# Altium footprint library Blinker.PcbLib: 5 footprints
Each footprint in its own frame and in the unit in brackets; x right, y up, seen from the top. Pads: shape width x height; smd on the part's side, far side on the other; paste and mask are expansions set on the pad; w line width, h text height; cw(c..) or ccw(c..) is an arc to the next point about the centre after c.
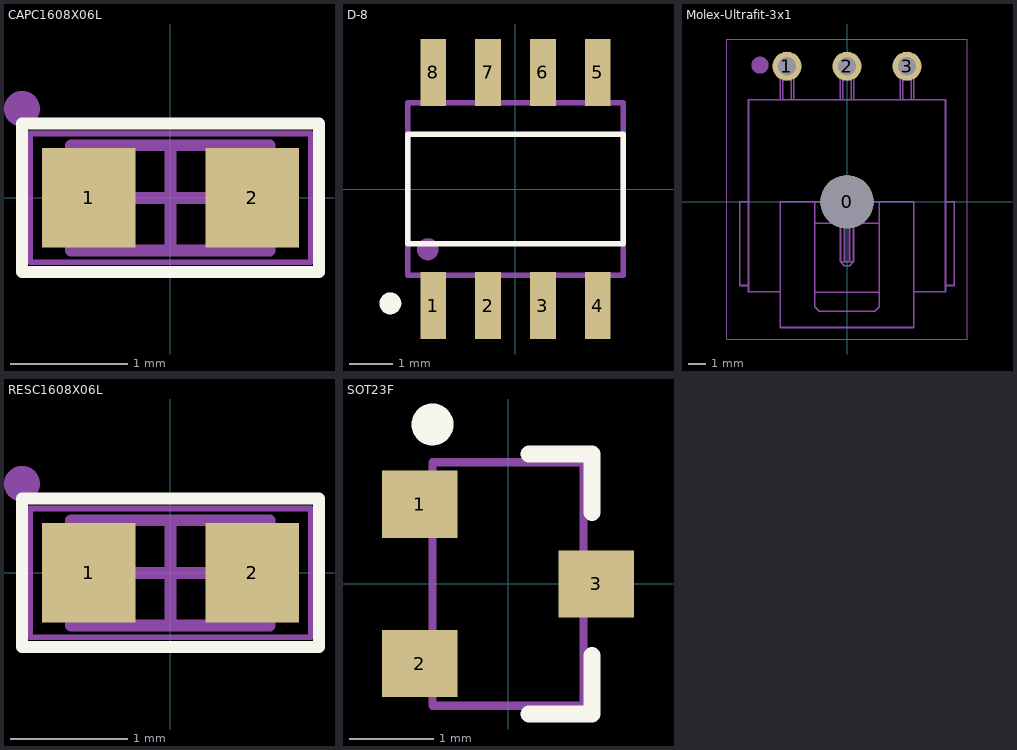
[diagram p0: the footprints below, top view; thin cyan lines are the x and y axes]

## CAPC1608X06L [mm] "Chip Capacitor, 2-Leads, Body 1.60x0.80mm, IPC High Density"
height 0.55
pads (2):
  rect 0.8x0.85 smd: 1(-0.7,0) 2(0.7,0)
Top Overlay:
  lines w0.102: -1.27,-0.635 -1.27,0.635 1.27,0.635 1.27,-0.635 -1.27,-0.635
Mechanical 2:
  text ".designator" at 0,0 h1.52
Mechanical 4:
  circle w0.254: c-1.27,0.762 r0.025
  lines w0.1: -0.85,-0.45 -0.85,0.45 0.85,0.45 0.85,-0.45 -0.85,-0.45
Mechanical 15:
  lines w0.05: -1.2,-0.55 -1.2,0.55 1.2,0.55 1.2,-0.55 -1.2,-0.55
  lines w0.1: -0.45,0 0.45,0 ; 0,-0.45 0,0.45
3D body: height 0.55, standoff 0, extent -0.55,-0.45 0.55,0.45
3D body: height 0.55, standoff 0, extent -0.85,-0.45 -0.55,0.45
3D body: height 0.55, standoff 0, extent 0.55,-0.45 0.85,0.45

## D-8 [mm] "SOIC-8"
height 1.75
pads (8):
  rect 0.6x1.55 smd: 1(-1.905,-2.7) 2(-0.635,-2.7) 3(0.635,-2.7) 4(1.905,-2.7) 5(1.905,2.7) 6(0.635,2.7) 7(-0.635,2.7) 8(-1.905,2.7)
Top Overlay:
  circle w0.254: c-2.9,-2.65 r0.127
  lines w0.127: -2.5,-1.27 2.5,-1.27 2.5,1.27 -2.5,1.27 -2.5,-1.27
Mechanical 4:
  circle w0.254: c-2.032,-1.397 r0.127
  lines w0.127: -2.5,-2 2.5,-2 2.5,2 -2.5,2 -2.5,-2
3D body: height 1.75, standoff 0.25, extent -2.5,-2 2.5,2

## Molex-Ultrafit-3x1 [mm] "Molex Ultrafit 3x1 - 172310-1303"
height 8.96
pads (4):
  round 3.1 hole 3.1 unplated: 0(0,0)
  round 1.7 hole 1.06: 1(-3.5,7.91) 2(0,7.91) 3(3.5,7.91)
Mechanical 6:
  text "'.Designator'" at -1.825,-0.175 h0.6
Mechanical 8:
  circle w0.5: c-5.075,7.975 r0.25
  lines w0.05: -7,-8 -7,9.5 7,9.5 7,-8 -7,-8
Mechanical 13:
  lines w0.1: -5.75,0 -6.25,0 -6.25,-4.875 -5.75,-4.875 ; -3.9,-5.25 -5.75,-5.25 -5.75,-4.875 ; -3.9,5.95 -3.9,7.575 -3.9,8.25 ; -3.75,5.95 -3.75,7.575 -3.75,8.1 ; -3.275,5.95 -3.25,5.975 -3.25,7.575 ; -3.1,5.95 -3.1,7.575 -3.1,8.25 ; -1.875,-5.275 1.875,-5.275 ; -1.875,-1.25 1.875,-1.25 ; -1.875,0 -1.875,-6.125 -1.625,-6.375 1.625,-6.375 1.875,-6.125 1.875,0 ; -0.4,5.95 -0.4,7.575 -0.4,8.25 ; -0.375,-1.25 -0.375,-2.525 ; -0.25,5.95 -0.25,7.575 -0.25,8.1 ; -0.15,-3.5 -0.15,-1.25 ; 0.15,-1.25 0.15,-3.5 ; 0.25,5.975 0.25,7.575 ; 0.375,-1.25 0.375,-2.525 0.375,-3.5 ; 0.4,5.95 0.4,7.575 0.4,8.25 ; 3.1,5.95 3.1,7.575 3.1,8.25 ; 3.25,5.95 3.25,7.575 3.25,8.1 ; 3.75,5.975 3.75,7.575 ; 3.9,-5.25 5.75,-5.25 5.75,-4.875 ; 3.9,5.95 3.9,7.575 3.9,8.25 ; 5.75,0 6.25,0 6.25,-4.875 5.75,-4.875 ; -5.75,-4.875 -5.75,5.95 5.75,5.95 5.75,-4.875 ; -3.9,8.25 -3.1,8.25 ; -3.9,8.25 -3.75,8.1 ; -3.9,8.25 -3.75,8.1 ; -3.75,8.1 -3.3,8.1 -3.25,8.1 ; -3.25,7.575 -3.25,8.1 ; -3.25,7.575 -3.25,7.575 ; -3.25,8.1 -3.1,8.25 ; -3.25,8.1 -3.1,8.25 ; -0.4,8.25 -0.25,8.1 ; -0.4,8.25 -0.25,8.1 ; -0.4,8.25 0.4,8.25 ; -0.375,-3.5 -0.375,-2.525 ; -0.375,-3.5 -0.15,-3.725 0,-3.725 0.15,-3.725 0.375,-3.5 ; -0.375,-3.5 0.375,-3.5 ; -0.375,-2.525 -0.375,-2.525 ; -0.25,8.1 0.2,8.1 0.25,8.1 ; 0.15,-3.5 0.15,-3.5 ; 0.25,7.575 0.25,7.575 ; 0.25,7.575 0.25,8.1 ; 0.25,8.1 0.4,8.25 ; 0.25,8.1 0.4,8.25 ; 3.1,8.25 3.25,8.1 ; 3.1,8.25 3.25,8.1 ; 3.1,8.25 3.9,8.25 ; 3.25,8.1 3.7,8.1 3.75,8.1 ; 3.75,7.575 3.75,7.575 ; 3.75,7.575 3.75,8.1 ; 3.75,8.1 3.9,8.25 ; 3.75,8.1 3.9,8.25 ; -3.9,-7.325 3.9,-7.325 3.9,0 -3.9,0 -3.9,-7.325
Mechanical 15:
  lines w0.05: -7,-8 7,-8 7,9.5 -7,9.5 -7,-8
  lines w0.1: -0.5,0 0.5,0 ; 0,-0.5 0,0.5
3D body "1723101303.stp": height 8.96, standoff -3.2, extent -6.25,-7.329 6.25,8.299

## RESC1608X06L [mm] "Chip Resistor, 2-Leads, Body 1.60x0.80mm, IPC High Density"
height 0.55
pads (2):
  rect 0.8x0.85 smd: 1(-0.7,0) 2(0.7,0)
Top Overlay:
  lines w0.102: -1.27,-0.635 1.27,-0.635 1.27,0.635 -1.27,0.635 -1.27,-0.635
Mechanical 2:
  text ".designator" at 0,0 h1.52
Mechanical 4:
  circle w0.254: c-1.27,0.762 r0.025
  lines w0.1: -0.85,-0.45 0.85,-0.45 0.85,0.45 -0.85,0.45 -0.85,-0.45
Mechanical 15:
  lines w0.05: -1.2,-0.55 1.2,-0.55 1.2,0.55 -1.2,0.55 -1.2,-0.55
  lines w0.1: -0.45,0 0.45,0 ; 0,-0.45 0,0.45
3D body: height 0.55, standoff 0, extent 0.55,-0.45 0.85,0.45
3D body: height 0.55, standoff 0, extent -0.85,-0.45 -0.55,0.45
3D body: height 0.55, standoff 0, extent -0.55,-0.45 0.55,0.45

## SOT23F [mm] "P-Channel 30V 6A (Ta) 1W (Ta) Surface Mount SOT-23F"
height 0.8
pads (3):
  rect 0.9x0.8 smd: 1(-1.05,0.95) 2(-1.05,-0.95) 3(1.05,0)
Top Overlay:
  circle w0.25: c-0.9,1.9 r0.125
  lines w0.2: 0.25,-1.55 1,-1.55 1,-0.85 ; 0.25,1.55 1,1.55 1,0.85
Mechanical 4:
  lines w0.1: -0.9,-1.45 0.9,-1.45 0.9,1.45 -0.9,1.45 -0.9,-1.45
3D body: height 0.8, standoff 0.01, extent -0.9,-1.45 0.9,1.45